# Altium footprint library ic.PcbLib: 25 footprints (part 2 of 2)
Each footprint in its own frame and in the unit in brackets; x right, y up, seen from the top. Pads: shape width x height; smd on the part's side, far side on the other; paste and mask are expansions set on the pad; w line width, h text height; cw(c..) or ccw(c..) is an arc to the next point about the centre after c.
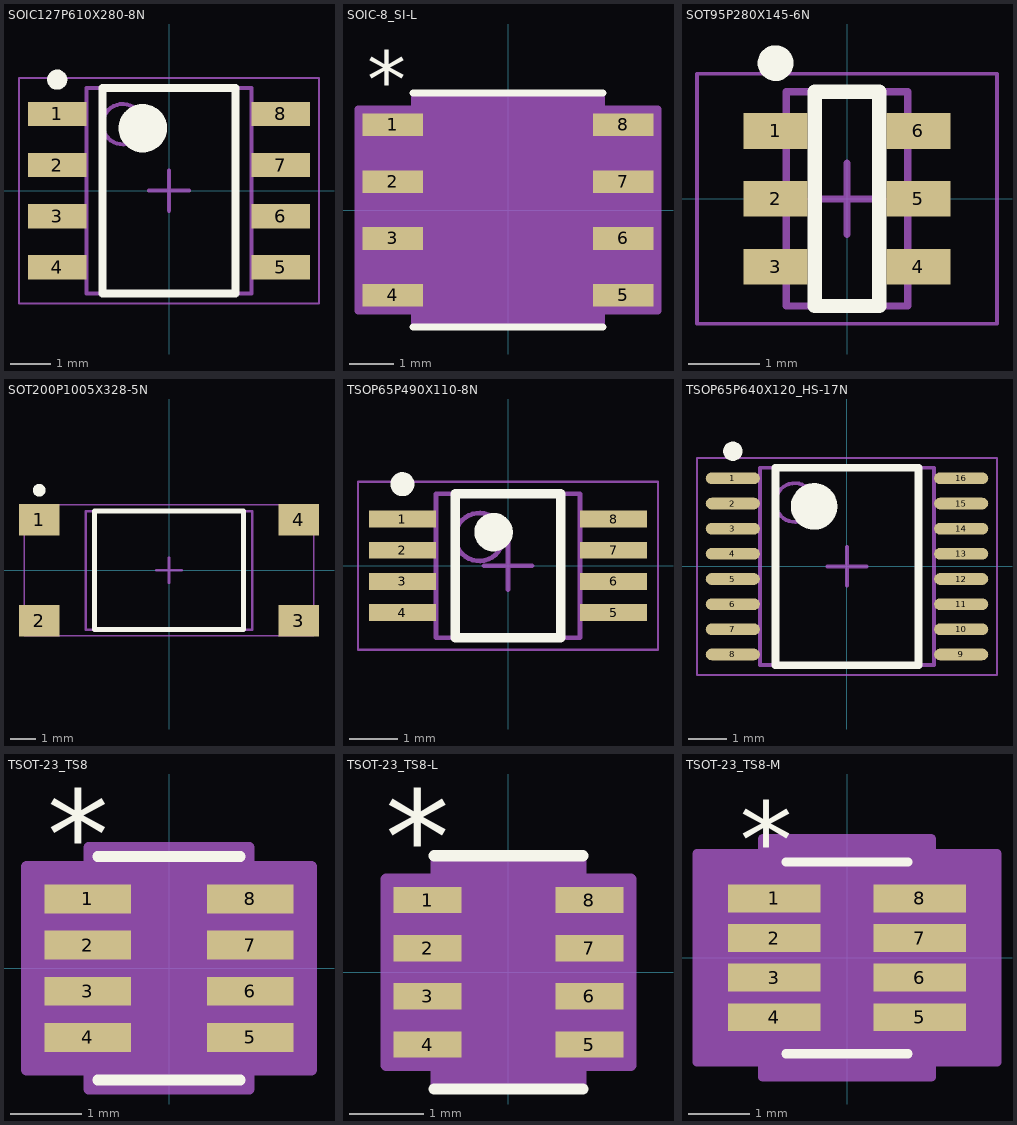
[diagram p1: the footprints below, top view; thin cyan lines are the x and y axes]

## SOIC127P610X280-8N [mm] "SOIC, 8-Leads, Body 5.10x4.10mm, Pitch 1.27mm, IPC Medium Density"
height 2.8
pads (8):
  rect 1.45x0.6 smd: 1(-2.775,1.905) 2(-2.775,0.635) 3(-2.775,-0.635) 4(-2.775,-1.905) 5(2.775,-1.905) 6(2.775,-0.635) 7(2.775,0.635) 8(2.775,1.905)
Top Overlay:
  circle w0.25: c-2.775,2.755 r0.125
  circle w0.6: c-0.65,1.55 r0.3
  lines w0.2: -1.65,-2.55 -1.65,2.55 1.65,2.55 1.65,-2.55 -1.65,-2.55
Mechanical 13:
  circle w0.1: c-1.15,1.65 r0.5
  lines w0.1: -2.05,-2.55 -2.05,2.55 2.05,2.55 2.05,-2.55 -2.05,-2.55
Mechanical 15:
  lines w0.05: -3.725,-2.8 -3.725,2.8 3.725,2.8 3.725,-2.8 -3.725,-2.8
  lines w0.1: -0.5,0 0.5,0 ; 0,-0.5 0,0.5
3D body: height 2.8, standoff 0.25, extent -2.05,-2.55 2.05,2.55

## SOIC-8_SI-L [mil]
pads (8):
  rect 53x20 smd paste+0 mask+0: 1(-101.5,75) 2(-101.5,25) 3(-101.5,-25) 4(-101.5,-75) 5(101.5,-75) 6(101.5,-25) 7(101.5,25) 8(101.5,75)
Top Overlay:
  lines w6: -83.5,-103 83.5,-103 ; -83.5,103 83.5,103
  text "*" at -124,90 h50
Mechanical 13:
  lines w0: -12,98 ccw(c0,98) 12,98
  lines w1: -122,-85 -122,-65 -78.5,-65 -78.5,-85 -122,-85 ; -122,-35 -122,-15 -78.5,-15 -78.5,-35 -122,-35 ; -122,15 -122,35 -78.5,35 -78.5,15 -122,15 ; -122,65 -122,85 -78.5,85 -78.5,65 -122,65 ; -78.5,-98 78.5,-98 78.5,98 -78.5,98 -78.5,-98 ; 78.5,-85 78.5,-65 122,-65 122,-85 78.5,-85 ; 78.5,-35 78.5,-15 122,-15 122,-35 78.5,-35 ; 78.5,15 78.5,35 122,35 122,15 78.5,15 ; 78.5,65 78.5,85 122,85 122,65 78.5,65
  text "*" at -76,45 h50
Mechanical 15:
  region: -82.5,-89 -132,-89 -132,89 -82.5,89 -82.5,102 82.5,102 82.5,89 132,89 132,-89 82.5,-89 82.5,-102 -82.5,-102
  lines w6: -132,-89 -132,89 -82.5,89 -82.5,102 82.5,102 82.5,89 132,89 132,-89 82.5,-89 82.5,-102 -82.5,-102 -82.5,-89 -132,-89
3D body: height 10, standoff 0, extent 0,0 10,10
3D body "SOIC-8_SI-L.stp": height 69.09, standoff 0, extent -122,-97.99 122.01,98

## SOT95P280X145-6N [mm] "SOT23, 6-Leads, Body 2.90x2.80mm, Pitch 0.95mm, IPC Medium Density"
height 1.45
pads (6):
  rect 0.9x0.5 smd: 1(-1,0.95) 2(-1,0) 3(-1,-0.95) 4(1,-0.95) 5(1,0) 6(1,0.95)
Top Overlay:
  circle w0.25: c-1,1.9 r0.125
  lines w0.2: -0.45,-1.5 0.45,-1.5 0.45,1.5 -0.45,1.5 -0.45,-1.5
Mechanical 13:
  lines w0.1: -0.85,-1.5 -0.85,1.5 0.85,1.5 0.85,-1.5 -0.85,-1.5
Mechanical 15:
  lines w0.05: -2.1,-1.75 -2.1,1.75 2.1,1.75 2.1,-1.75 -2.1,-1.75
  lines w0.1: -0.5,0 0.5,0 ; 0,-0.5 0,0.5
3D body: height 1.45, standoff 0.05, extent -0.85,-1.5 0.85,1.5

## SOT200P1005X328-5N [mm] "SOT23, 5-Leads, Body 4.60x10.05mm, Pitch 2.00mm, IPC Medium Density"
height 3.28
pads (4):
  rect 1.6x1.25 smd: 1(-5.15,2) 2(-5.15,-2) 3(5.15,-2) 4(5.15,2)
Top Overlay:
  circle w0.25: c-5.15,3.175 r0.125
  lines w0.2: -2.95,-2.35 2.95,-2.35 2.95,2.35 -2.95,2.35 -2.95,-2.35
Mechanical 13:
  lines w0.1: -3.3,-2.35 -3.3,2.35 3.3,2.35 3.3,-2.35 -3.3,-2.35
Mechanical 15:
  lines w0.05: -5.75,-2.6 -5.75,2.6 5.75,2.6 5.75,-2.6 -5.75,-2.6
  lines w0.1: -0.5,0 0.5,0 ; 0,-0.5 0,0.5
3D body "SOT200P1005X328-5N.step": height 3.28, standoff 0, extent -5.15,-2.625 5.15,2.625

## TSOP65P490X110-8N [mm] "TSOP, 8-Leads, Body 3.00x3.00mm, Pitch 0.65mm, IPC Medium Density"
height 1.1
pads (8):
  rect 1.4x0.35 smd: 1(-2.2,0.975) 2(-2.2,0.325) 3(-2.2,-0.325) 4(-2.2,-0.975) 5(2.2,-0.975) 6(2.2,-0.325) 7(2.2,0.325) 8(2.2,0.975)
Top Overlay:
  circle w0.4: c-0.3,0.7 r0.2
  circle w0.25: c-2.2,1.7 r0.125
  lines w0.2: -1.1,-1.5 1.1,-1.5 1.1,1.5 -1.1,1.5 -1.1,-1.5
Mechanical 13:
  circle w0.1: c-0.6,0.6 r0.5
  lines w0.1: -1.5,-1.5 1.5,-1.5 1.5,1.5 -1.5,1.5 -1.5,-1.5
Mechanical 15:
  lines w0.05: -3.125,-1.75 3.125,-1.75 3.125,1.75 -3.125,1.75 -3.125,-1.75
  lines w0.1: -0.5,0 0.5,0 ; 0,-0.5 0,0.5
3D body "TSOP65P490X110-8N.step": height 1.1, standoff 0, extent -2.45,-1.5 2.45,1.5

## TSOP65P640X120_HS-17N [mm] "TSOP, 16-Leads, Body 5.00x4.40mm, Pitch 0.65mm, Thermal Pad 0.00x0.00mm, IPC Medium Density"
height 1.2
pads (16):
  oval 1.4x0.3 smd: 1(-2.95,2.275) 2(-2.95,1.625) 3(-2.95,0.975) 4(-2.95,0.325) 5(-2.95,-0.325) 6(-2.95,-0.975) 7(-2.95,-1.625) 8(-2.95,-2.275) 9(2.95,-2.275) 10(2.95,-1.625) 11(2.95,-0.975) 12(2.95,-0.325) 13(2.95,0.325) 14(2.95,0.975) 15(2.95,1.625) 16(2.95,2.275)
Top Overlay:
  circle w0.25: c-2.95,2.975 r0.125
  circle w0.6: c-0.85,1.55 r0.3
  lines w0.2: -1.85,-2.55 -1.85,2.55 1.85,2.55 1.85,-2.55 -1.85,-2.55
Mechanical 13:
  circle w0.1: c-1.35,1.65 r0.5
  lines w0.1: -2.25,-2.55 -2.25,2.55 2.25,2.55 2.25,-2.55 -2.25,-2.55
Mechanical 15:
  lines w0.05: -3.875,-2.8 -3.875,2.8 3.875,2.8 3.875,-2.8 -3.875,-2.8
  lines w0.1: -0.5,0 0.5,0 ; 0,-0.5 0,0.5
3D body "TSOP65P640X120_HS-17N.step": height 1.2, standoff 0, extent -3.2,-2.55 3.2,2.55

## TSOT-23_TS8 [mil]
pads (8):
  rect 48x16 smd paste+0 mask+0: 1(-45,38.39) 2(-45,12.8) 3(-45,-12.8) 4(-45,-38.39) 5(45,-38.39) 6(45,-12.8) 7(45,12.8) 8(45,38.39)
Top Overlay:
  lines w6: -39.5,-62 39.5,-62 ; -39.5,62 39.5,62
  text "*" at -67.5,49.39 h50
Mechanical 13:
  lines w0: -12,57 ccw(c0,57) 12,57
  lines w1: -55,-45.39 -34.5,-45.39 -34.5,-31.39 -55,-31.39 -55,-45.39 ; -55,-19.8 -34.5,-19.8 -34.5,-5.8 -55,-5.8 -55,-19.8 ; -55,5.8 -34.5,5.8 -34.5,19.8 -55,19.8 -55,5.8 ; -55,31.39 -34.5,31.39 -34.5,45.39 -55,45.39 -55,31.39 ; -34.5,-57 -34.5,57 34.5,57 34.5,-57 -34.5,-57 ; 34.5,-45.39 55,-45.39 55,-31.39 34.5,-31.39 34.5,-45.39 ; 34.5,-19.8 55,-19.8 55,-5.8 34.5,-5.8 34.5,-19.8 ; 34.5,5.8 55,5.8 55,19.8 34.5,19.8 34.5,5.8 ; 34.5,31.39 55,31.39 55,45.39 34.5,45.39 34.5,31.39
  text "*" at -40,5 h50
Mechanical 15:
  region: -44.5,-56.39 -79,-56.39 -79,56.39 -44.5,56.39 -44.5,67 44.5,67 44.5,56.39 79,56.39 79,-56.39 44.5,-56.39 44.5,-67 -44.5,-67
  lines w6: -79,-56.39 -44.5,-56.39 -44.5,-67 44.5,-67 44.5,-56.39 79,-56.39 79,56.39 44.5,56.39 44.5,67 -44.5,67 -44.5,56.39 -79,56.39 -79,-56.39
3D body: height 23.62, standoff 0, extent -50,-60 45,57.5

## TSOT-23_TS8-L [mil]
pads (8):
  rect 36x14 smd paste+0 mask+0: 1(-43,38.39) 2(-43,12.8) 3(-43,-12.8) 4(-43,-38.39) 5(43,-38.39) 6(43,-12.8) 7(43,12.8) 8(43,38.39)
Top Overlay:
  lines w6: -39.5,-62 39.5,-62 ; -39.5,62 39.5,62
  text "*" at -65.5,47.39 h50
Mechanical 13:
  lines w0: -12,57 ccw(c0,57) 12,57
  lines w1: -55,-45.39 -34.5,-45.39 -34.5,-31.39 -55,-31.39 -55,-45.39 ; -55,-19.8 -34.5,-19.8 -34.5,-5.8 -55,-5.8 -55,-19.8 ; -55,5.8 -34.5,5.8 -34.5,19.8 -55,19.8 -55,5.8 ; -55,31.39 -34.5,31.39 -34.5,45.39 -55,45.39 -55,31.39 ; -34.5,-57 -34.5,57 34.5,57 34.5,-57 -34.5,-57 ; 34.5,-45.39 55,-45.39 55,-31.39 34.5,-31.39 34.5,-45.39 ; 34.5,-19.8 55,-19.8 55,-5.8 34.5,-5.8 34.5,-19.8 ; 34.5,5.8 55,5.8 55,19.8 34.5,19.8 34.5,5.8 ; 34.5,31.39 55,31.39 55,45.39 34.5,45.39 34.5,31.39
  text "*" at -32,4 h50
Mechanical 15:
  region: -38.5,-49.39 -65,-49.39 -65,49.39 -38.5,49.39 -38.5,61 38.5,61 38.5,49.39 65,49.39 65,-49.39 38.5,-49.39 38.5,-61 -38.5,-61
  lines w6: -65,-49.39 -38.5,-49.39 -38.5,-61 38.5,-61 38.5,-49.39 65,-49.39 65,49.39 38.5,49.39 38.5,61 -38.5,61 -38.5,49.39 -65,49.39 -65,-49.39
3D body "TSOT-23_TS8-L.stp": height 39.09, standoff 0, extent -54.99,-57 55,57.01

## TSOT-23_TS8-M [mil]
pads (8):
  rect 60x18 smd paste+0 mask+0: 1(-47,38.39) 2(-47,12.8) 3(-47,-12.8) 4(-47,-38.39) 5(47,-38.39) 6(47,-12.8) 7(47,12.8) 8(47,38.39)
Top Overlay:
  lines w6: -39.5,-62 39.5,-62 ; -39.5,62 39.5,62
  text "*" at -69.5,51.39 h50
Mechanical 13:
  lines w0: -12,57 ccw(c0,57) 12,57
  lines w1: -55,-45.39 -34.5,-45.39 -34.5,-31.39 -55,-31.39 -55,-45.39 ; -55,-19.8 -34.5,-19.8 -34.5,-5.8 -55,-5.8 -55,-19.8 ; -55,5.8 -34.5,5.8 -34.5,19.8 -55,19.8 -55,5.8 ; -55,31.39 -34.5,31.39 -34.5,45.39 -55,45.39 -55,31.39 ; -34.5,-57 -34.5,57 34.5,57 34.5,-57 -34.5,-57 ; 34.5,-45.39 55,-45.39 55,-31.39 34.5,-31.39 34.5,-45.39 ; 34.5,-19.8 55,-19.8 55,-5.8 34.5,-5.8 34.5,-19.8 ; 34.5,5.8 55,5.8 55,19.8 34.5,19.8 34.5,5.8 ; 34.5,31.39 55,31.39 55,45.39 34.5,45.39 34.5,31.39
  text "*" at -32,4 h50
Mechanical 15:
  region: -54.5,-67.39 -97,-67.39 -97,67.39 -54.5,67.39 -54.5,77 54.5,77 54.5,67.39 97,67.39 97,-67.39 54.5,-67.39 54.5,-77 -54.5,-77
  lines w6: -97,-67.39 -54.5,-67.39 -54.5,-77 54.5,-77 54.5,-67.39 97,-67.39 97,67.39 54.5,67.39 54.5,77 -54.5,77 -54.5,67.39 -97,67.39 -97,-67.39
3D body: height 10, standoff 0, extent 0,0 10,10
3D body "TSOT-23_TS8-L.stp": height 39.09, standoff 0, extent -54.99,-57 55.01,57.01